# Altium schematic symbol library Switch_CTS_218-6LPST_eec.SchLib: 1 symbol
Pins are listed as number, name and electrical type; pins without a type are passive.

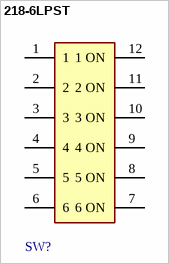
[diagram p0: symbol 218-6LPST]

## 218-6LPST
designator SW?  (value not drawn)
pins: 1, 2, 3, 4, 5, 6, 7 6 ON, 8 5 ON, 9 4 ON, 10 3 ON, 11 2 ON, 12 1 ON